# Altium footprint library PAL.PcbLib: 271 footprints (part 6 of 17)
Each footprint in its own frame and in the unit in brackets; x right, y up, seen from the top. Pads: shape width x height; smd on the part's side, far side on the other; paste and mask are expansions set on the pad; w line width, h text height; cw(c..) or ccw(c..) is an arc to the next point about the centre after c.
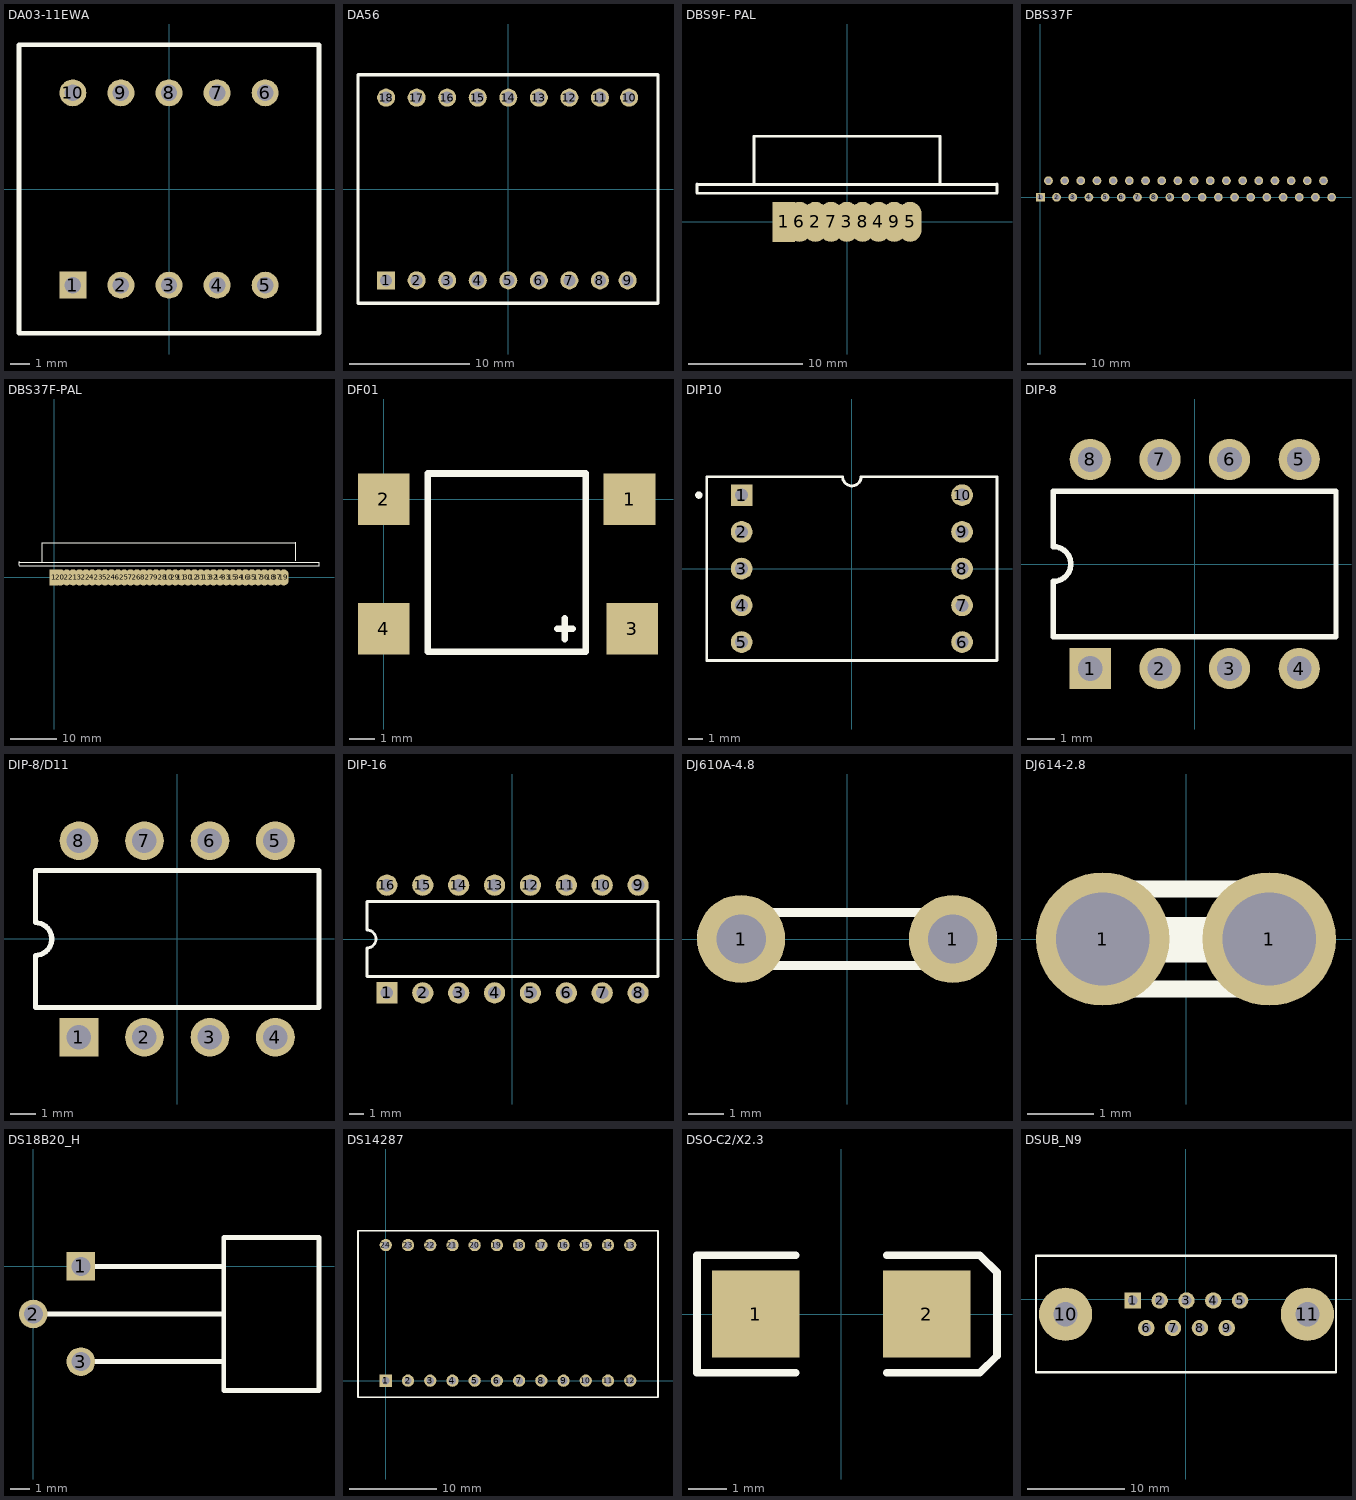
[diagram p5: the footprints below, top view; thin cyan lines are the x and y axes]

## DA03-11EWA [mm]
pads (10):
  rect 1.4x1.4 on Top hole 0.85: 1(-5,-5)
  round 1.4 on Top hole 0.85: 2(-2.5,-5) 3(0,-5) 4(2.5,-5) 5(5,-5) 6(5,5) 7(2.5,5) 8(0,5) 9(-2.5,5) 10(-5,5)
Top Overlay:
  lines w0.254: -7.8,-7.5 -7.8,7.5 7.8,7.5 7.8,-7.5 -7.8,-7.5

## DA56 [mm] "SMA"
pads (18):
  rect 1.5x1.5 on Top hole 1: 1(-10.16,-7.6)
  round 1.5 on Top hole 1: 2(-7.62,-7.6) 3(-5.08,-7.6) 4(-2.54,-7.6) 5(0,-7.6) 6(2.54,-7.6) 7(5.08,-7.6) 8(7.62,-7.6) 9(9.925,-7.6) 10(10.05,7.6) 11(7.62,7.6) 12(5.08,7.6) 13(2.54,7.6) 14(0,7.6) 15(-2.54,7.6) 16(-5.08,7.6) 17(-7.62,7.6) 18(-10.16,7.6)
Top Overlay:
  lines w0.254: -0.05,-9.5 12.45,-9.5 12.45,0 ; -12.5,-9.5 -12.5,0 ; -12.5,-9.5 0,-9.5 -12.5,-9.5 ; -12.5,-9.5 -12.5,0 ; -12.5,0 -12.5,9.5 ; -12.5,0 -12.5,9.5 ; -12.5,9.5 0,9.5 -12.5,9.5 ; 12.45,0 12.45,9.5 ; 12.45,0 12.45,9.5 ; 12.45,9.5 -0.05,9.5 12.45,9.5

## DBS9F- PAL [mm]
pads (9):
  rect 2x3.5 smd: 1(-5.55,0)
  oval 2x3.5 smd: 2(-2.78,0) 3(-0.01,0) 4(2.76,0) 5(5.53,0) 6(-4.17,0) 7(-1.4,0) 8(1.37,0) 9(4.14,0)
Top Overlay:
  lines w0.25: -8.15,3.3 -8.15,7.475 -8.125,7.5 ; -8.15,7.5 0,7.5 8.15,7.5 ; 8.125,7.5 8.15,7.475 8.15,3.3 ; -13.15,2.525 -13.125,2.5 0,2.5 13.125,2.5 13.15,2.525 13.15,3.3 13.125,3.275 0,3.275 -13.125,3.275 -13.15,3.3 -13.15,2.525
  lines w0.254: -8.15,3.4 -8.15,7.5 ; 8.15,3.4 8.15,7.5

## DBS37F [mm]
pads (37):
  rect 1.5x1.5 on Top hole 0.95: 1(0,0)
  round 1.5 on Top hole 0.95: 2(2.77,0) 3(5.54,0) 4(8.31,0) 5(11.08,0) 6(13.85,0) 7(16.62,0) 8(19.39,0) 9(22.16,0) 10(24.93,0) 11(27.7,0) 12(30.47,0) 13(33.24,0) 14(36.01,0) 15(38.78,0) 16(41.55,0) 17(44.32,0) 18(47.09,0) 19(49.86,0) 20(1.38,2.84) 21(4.15,2.84) 22(6.92,2.84) 23(9.69,2.84) 24(12.46,2.84) 25(15.23,2.84) 26(18,2.84) 27(20.77,2.84) 28(23.54,2.84) 29(26.31,2.84) 30(29.08,2.84) 31(31.85,2.84) 32(34.62,2.84) 33(37.39,2.84) 34(40.16,2.84) 35(42.93,2.84) 36(45.7,2.84) 37(48.47,2.84)

## DBS37F-PAL [mm]
pads (37):
  rect 2x3.5 smd: 1(0,0)
  oval 2x3.5 smd: 2(2.77,0) 3(5.54,0) 4(8.31,0) 5(11.08,0) 6(13.85,0) 7(16.62,0) 8(19.39,0) 9(22.16,0) 10(24.93,0) 11(27.7,0) 12(30.47,0) 13(33.24,0) 14(36.01,0) 15(38.78,0) 16(41.55,0) 17(44.32,0) 18(47.09,0) 19(49.86,0) 20(1.38,0) 21(4.15,0) 22(6.92,0) 23(9.69,0) 24(12.46,0) 25(15.23,0) 26(18,0) 27(20.77,0) 28(23.54,0) 29(26.31,0) 30(29.08,0) 31(31.85,0) 32(34.62,0) 33(37.39,0) 34(40.16,0) 35(42.93,0) 36(45.7,0) 37(48.47,0)
Top Overlay:
  lines w0.254: -7.6,2.6 -7.6,3.4 -7.5,3.3 57.5,3.3 57.5,2.5 -7.5,2.5 ; -2.6,3.4 -2.6,7.5 52.4,7.5 52.5,7.6 52.5,3.6

## DF01 [mm]
pads (4):
  rect 2x2 smd: 1(9.496,0.002) 2(-0.004,0.002) 3(9.596,-4.998) 4(-0.004,-4.998)
Top Overlay:
  lines w0.254: 6.696,-4.998 7.296,-4.998 ; 6.996,-5.398 6.996,-4.598 ; 1.696,-5.898 1.696,1.002 7.796,1.002 7.796,-5.898 1.696,-5.898

## DIP10 [mm]
pads (10):
  rect 1.5x1.5 on Top hole 0.9: 1(-7.626,5.086)
  round 1.5 on Top hole 0.9: 2(-7.626,2.546) 3(-7.626,0.006) 4(-7.626,-2.534) 5(-7.626,-5.074) 6(7.614,-5.074) 7(7.614,-2.534) 8(7.614,0.006) 9(7.614,2.546) 10(7.614,5.086)
Top Overlay:
  circle w0.25: c-10.588,5.084 r0.125
  lines w0.2: -10.041,-6.344 -10.041,6.356 -0.641,6.356 ccw(c-0.006,6.356) 0.629,6.356 10.029,6.356 10.029,-6.344 -10.041,-6.344

## DIP-8 [mm]
pads (8):
  rect 1.5x1.5 on Top hole 0.9: 1(-3.817,-3.8)
  round 1.5 on Top hole 0.9: 2(-1.277,-3.8) 3(1.263,-3.8) 4(3.803,-3.8) 5(3.803,3.82) 6(1.263,3.82) 7(-1.277,3.82) 8(-3.817,3.82)
Top Overlay:
  lines w0.2: -5.157,-2.64 5.143,-2.64 5.143,2.66 -5.157,2.66 -5.157,0.645 cw(c-5.157,0.01) -5.157,-0.625 -5.157,-2.64

## DIP-8/D11 [mm]
pads (8):
  rect 1.5x1.5 on Top hole 0.95: 1(-3.803,-3.816)
  round 1.5 on Top hole 0.95: 2(-1.263,-3.816) 3(1.277,-3.816) 4(3.817,-3.816) 5(3.817,3.804) 6(1.277,3.804) 7(-1.263,3.804) 8(-3.803,3.804)
Top Overlay:
  lines w0.2: -5.493,-2.656 5.507,-2.656 5.507,2.644 -5.493,2.644 -5.493,0.629 cw(c-5.493,-0.006) -5.493,-0.641 -5.493,-2.656

## DIP-16 [mm]
pads (16):
  rect 1.5x1.5 on Top hole 0.9: 1(-8.888,-3.802)
  round 1.5 on Top hole 0.9: 2(-6.348,-3.802) 3(-3.808,-3.802) 4(-1.268,-3.802) 5(1.272,-3.802) 6(3.812,-3.802) 7(6.352,-3.802) 8(8.892,-3.802) 9(8.892,3.818) 10(6.352,3.818) 11(3.812,3.818) 12(1.272,3.818) 13(-1.268,3.818) 14(-3.808,3.818) 15(-6.348,3.818) 16(-8.888,3.818)
Top Overlay:
  lines w0.2: -10.298,-2.642 -10.298,-0.627 ccw(c-10.298,0.008) -10.298,0.643 -10.298,2.658 10.302,2.658 10.302,-2.642 -10.298,-2.642

## DJ610A-4.8 [mm]
pads (2):
  round 2.5 on Top hole 1.4: 1(-3,0) 1(3,0)
Top Overlay:
  lines w0.254: -3.475,0.75 3.4,0.75 ; -3.375,-0.75 3.4,-0.75 ; -3.375,-0.725 cw(c-3.375,0.025) -3.375,0.775 ; 3.375,-0.75 ccw(c3.375,0) 3.375,0.75

## DJ614-2.8 [mm]
pads (2):
  round 2 on Top hole 1.4: 1(-1.25,0) 1(1.25,0)
Top Overlay:
  lines w0.254: -2,0 2,0 ; -1.975,-0.225 1.875,-0.225 1.95,-0.15 ; -1.925,0.2 1.875,0.2 1.9,0.175 ; -1.25,-0.75 cw(c-1.25,0) -1.25,0.75 1.25,0.75 cw(c1.25,0) 1.25,-0.75 -1.25,-0.75

## DS18B20_H [mm]
pads (3):
  rect 1.5x1.5 on Top hole 1: 1(2.5,0)
  round 1.5 on Top hole 1: 2(0,-2.5) 3(2.5,-5)
Top Overlay:
  lines w0.254: 0,-2.5 10,-2.5 ; 2.5,-5 10,-5 ; 2.5,0 10,0 ; 10,-2.5 10,-6.525 15,-6.525 15,-2.5 15,1.525 10,1.525 10,-2.5

## DS14287 [mm]
pads (24):
  rect 1.4x1.4 on Top hole 0.85: 1(0.009,-0.011)
  round 1.4 on Top hole 0.85: 2(2.549,-0.011) 3(5.089,-0.011) 4(7.629,-0.011) 5(10.169,-0.011) 6(12.709,-0.011) 7(15.249,-0.011) 8(17.789,-0.011) 9(20.329,-0.011) 10(22.869,-0.011) 11(25.409,-0.011) 12(27.949,-0.011) 13(27.949,15.483) 14(25.409,15.483) 15(22.869,15.483) 16(20.329,15.483) 17(17.789,15.483) 18(15.249,15.483) 19(12.709,15.483) 20(10.169,15.483) 21(7.629,15.483) 22(5.089,15.483) 23(2.549,15.483) 24(0.009,15.483)
Top Overlay:
  lines w0.2: -3.166,-1.916 -3.166,17.134 31.124,17.134 31.124,-1.916 0.009,-1.916 -3.166,-1.916

## DSO-C2/X2.3 [mm]
pads (2):
  rect 2.3x2.3 smd: 1(-2.252,0.001) 2(2.248,0.001)
Top Overlay:
  lines w0.2: -1.202,-1.549 -3.802,-1.549 -3.802,1.551 -1.202,1.551 ; 1.198,-1.549 3.638,-1.549 4.098,-1.099 4.098,1.101 3.648,1.551 ; 1.198,1.551 3.638,1.551

## DSUB_N9 [mm]
pads (11):
  rect 1.69x1.69 on Top hole 1: 1(-5.481,-0.116)
  round 1.69 on Top hole 1: 2(-2.711,-0.116) 3(0.059,-0.116) 4(2.829,-0.116) 5(5.599,-0.116) 6(-4.096,-2.956) 7(-1.326,-2.956) 8(1.444,-2.956) 9(4.214,-2.956)
  round 5.5 on Top hole 2.5: 10(-12.436,-1.536) 11(12.554,-1.536)
Top Overlay:
  lines w0.254: -15.49,-7.512 15.41,-7.512 15.51,-7.512 15.51,4.488 0.01,4.488 -15.49,4.488 -15.49,-7.512